# EAGLE library part MX25L4006E (library Memories)
MACRONIX CMOS SERIAL FLASH 4Mb - 512KB
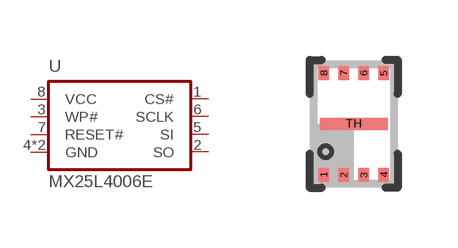
[diagram p1: symbol with the pads of L4006E; footprint L4006E]

Designator prefix -

## MX25L4006E  [L4006E]
1  CS#
2  SO
3  WP#
4  GND
5  SI
6  SCLK
7  RESET#
8  VCC
TH  GND

## Footprint L4006E (pad centres in mm)
smd 0.27 x 0.35: 1 -0.75,-1.275; 2 -0.25,-1.275; 3 0.25,-1.275; 4 0.75,-1.275; 5 0.75,1.275; 6 0.25,1.275; 7 -0.25,1.275; 8 -0.75,1.275
smd 1.7 x 0.3: TH 0,0